# Altium schematic symbol library LM2596S-5.0.SchLib: 1 symbol
Pins are listed as number, name and electrical type; pins without a type are passive.

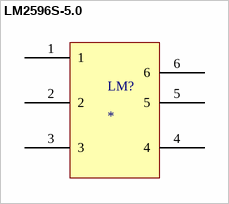
[diagram p0: symbol LM2596S-5.0]

## LM2596S-5.0
designator LM?
pins: 1, 2, 3, 4, 5, 6